# Altium footprint library OKmePCBLibrary.PcbLib: 194 footprints (part 4 of 13)
Each footprint in its own frame and in the unit in brackets; x right, y up, seen from the top. Pads: shape width x height; smd on the part's side, far side on the other; paste and mask are expansions set on the pad; w line width, h text height; cw(c..) or ccw(c..) is an arc to the next point about the centre after c.
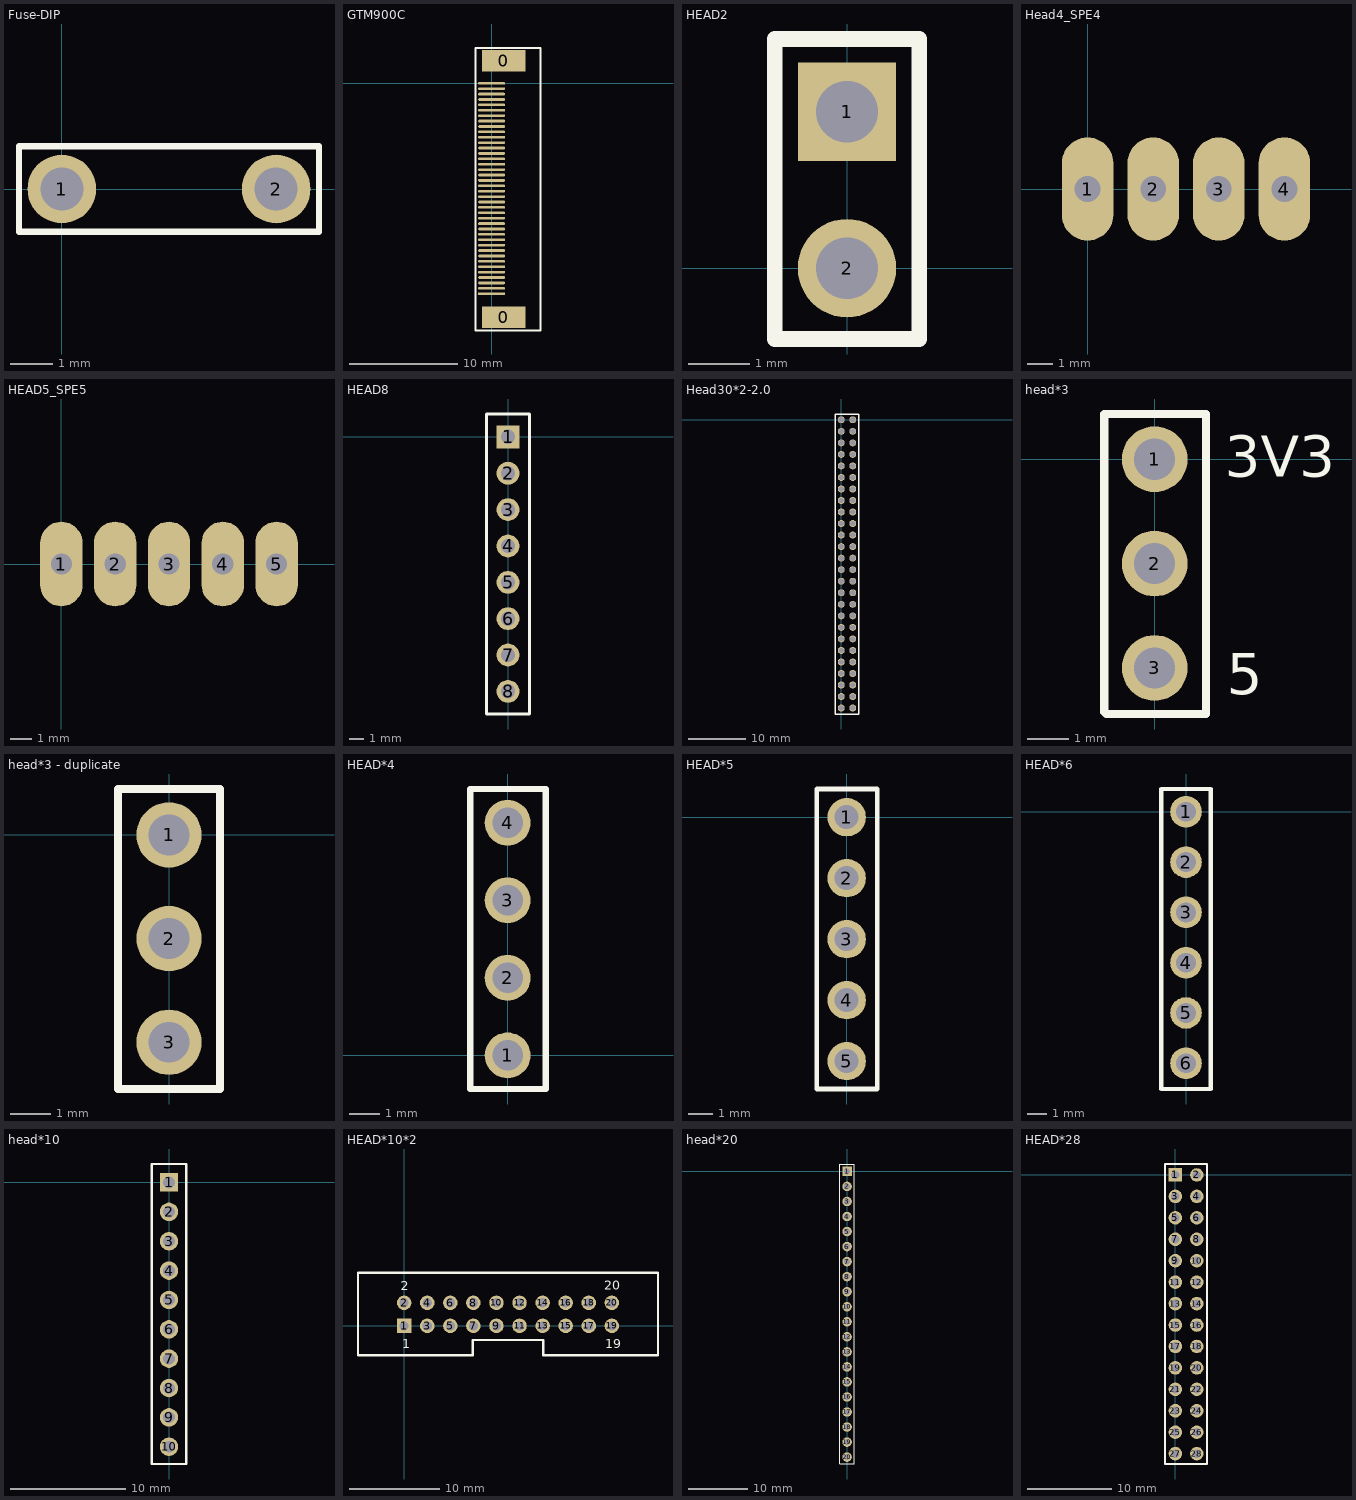
[diagram p3: the footprints below, top view; thin cyan lines are the x and y axes]

## Fuse-DIP [mm]
pads (2):
  round 1.6 hole 1: 1(0,0) 2(5,0)
Top Overlay:
  lines w0.15: -1,-1 -1,1 6,1 6,-1 -1,-1

## GTM900C [mm]
pads (42):
  rect 4x2 smd: 0(1.12,-21.695) 0(1.12,2.104)
  oval 2.5x0.25 smd: 1(0,0) 2(0,-0.5) 3(0,-1) 4(0,-1.5) 5(0,-2) 6(0,-2.5) 7(0,-3) 8(0,-3.5) 9(0,-4) 10(0,-4.5) 11(0,-5) 12(0,-5.5) 13(0,-6) 14(0,-6.5) 15(0,-7) 16(0,-7.5) 17(0,-8) 18(0,-8.5) 19(0,-9) 20(0,-9.5) 21(0,-10) 22(0,-10.5) 23(0,-11) 24(0,-11.5) 25(0,-12) 26(0,-12.5) 27(0,-13) 28(0,-13.5) 29(0,-14) 30(0,-14.5) 31(0,-15) 32(0,-15.5) 33(0,-16) 34(0,-16.5) 35(0,-17) 36(0,-17.5) 37(0,-18) 38(0,-18.5) 39(0,-19)
  rect 2.5x0.25 smd: 40(0,-19.499)
Top Overlay:
  lines w0.2: 4.52,0.75 4.52,-22.9 -1.48,-22.9 -1.48,3.275 4.52,3.275 4.52,0.775

## HEAD2 [mm]
pads (2):
  rect 1.6x1.6 hole 1: 1(0,2.54)
  round 1.6 hole 1: 2(0,0)
Top Overlay:
  lines w0.254: -1.175,-1.15 -1.175,3.725 1.175,3.725 1.175,-1.15 -1.175,-1.15

## Head4_SPE4 [mm]
pads (4):
  oval 2x4 hole 1: 1(0,0) 2(2.54,0) 3(5.08,0) 4(7.62,0)

## HEAD5_SPE5 [mm]
pads (5):
  oval 2x4 hole 1: 1(0,0) 2(2.54,0) 3(5.08,0) 4(7.62,0) 5(10.16,0)

## HEAD8 [mm]
pads (8):
  rect 1.6x1.6 hole 1: 1(0,0)
  round 1.6 hole 1: 2(0,-2.54) 3(0,-5.08) 4(0,-7.62) 5(0,-10.16) 6(0,-12.7) 7(0,-15.24) 8(0,-17.78)
Top Overlay:
  lines w0.2: -1.5,-19.36 -1.5,1.6 1.5,1.6 1.5,-19.36 -1.5,-19.36

## Head30*2-2.0 [mm]
pads (52):
  round 1.2 hole 0.9: 1(0,0) 2(2,0) 3(0,-2) 4(2,-2) 5(0,-4) 6(2,-4) 7(0,-6) 8(2,-6) 9(0,-8) 10(2,-8) 11(0,-10) 12(2,-10) 13(0,-12) 14(2,-12) 15(0,-14) 16(2,-14) 17(0,-16) 18(2,-16) 19(0,-18) 20(2,-18) 21(0,-20) 22(2,-20) 23(0,-22) 24(2,-22) 25(0,-24) 26(2,-24) 27(0,-26) 28(2,-26) 29(0,-28) 30(2,-28) 31(0,-30) 32(2,-30) 33(0,-32) 34(2,-32) 35(0,-34) 36(2,-34) 37(0,-36) 38(2,-36) 39(0,-38) 40(2,-38) 41(0,-40) 42(2,-40) 43(0,-42) 44(2,-42) 45(0,-44) 46(2,-44) 47(0,-46) 48(2,-46) 49(0,-48) 50(2,-48) 51(0,-50) 52(2,-50)
Top Overlay:
  lines w0.254: -1,-51.025 -1,1 3,1 3,-51.025 -1,-51.025

## head*3 [mm]
pads (3):
  round 1.6 hole 1: 1(0,0) 2(0,-2.54) 3(0,-5.08)
Top Overlay:
  lines w0.203: -1.225,-6.15 -1.175,-6.2 1.25,-6.2 1.25,1.1 -1.225,1.1 -1.225,-6.15
  text "5" at 1.75,-5.725 h1
  text "3V3" at 1.7,-0.425 h1

## head*3 - duplicate [mm]
pads (3):
  round 1.6 hole 1: 1(0,0) 2(0,-2.54) 3(0,-5.08)
Top Overlay:
  lines w0.203: -1.25,-6.225 1.25,-6.225 1.25,1.125 -1.25,1.125 -1.25,-6.225

## HEAD*4 [mm]
pads (4):
  round 1.5 hole 1: 1(0,0) 2(0,2.54) 3(0,5.08) 4(0,7.62)
Top Overlay:
  lines w0.203: 1.25,8.275 1.25,8.725 -1.225,8.725 -1.225,-1.1 1.25,-1.1 1.25,8.475

## HEAD*5 [mm]
pads (5):
  round 1.6 hole 1: 1(0,0) 2(0,-2.54) 3(0,-5.08) 4(0,-7.62) 5(0,-10.16)
Top Overlay:
  lines w0.203: -1.25,-11.325 1.275,-11.325 1.275,1.175 -1.25,1.175 -1.25,-11.325

## HEAD*6 [mm]
pads (6):
  round 1.6 hole 1: 1(0,0) 2(0,-2.54) 3(0,-5.08) 4(0,-7.62) 5(0,-10.16) 6(0,-12.7)
Top Overlay:
  lines w0.203: -1.25,-14 -1.25,1.15 1.25,1.15 1.25,-14 -1.25,-14

## head*10 [mm]
pads (10):
  rect 1.6x1.6 hole 1: 1(0,0)
  round 1.6 hole 1: 2(0,-2.54) 3(0,-5.08) 4(0,-7.62) 5(0,-10.16) 6(0,-12.7) 7(0,-15.24) 8(0,-17.78) 9(0,-20.32) 10(0,-22.86)
Top Overlay:
  lines w0.2: -1.5,-24.35 1.5,-24.35 1.5,1.6 -1.5,1.6 -1.5,-24.35

## HEAD*10*2 [mm]
pads (20):
  rect 1.6x1.6 hole 1: 1(0,0)
  round 1.6 hole 1: 2(0,2.54) 3(2.54,0) 4(2.54,2.54) 5(5.08,0) 6(5.08,2.54) 7(7.62,0) 8(7.62,2.54) 9(10.16,0) 10(10.16,2.54) 11(12.7,0) 12(12.7,2.54) 13(15.24,0) 14(15.24,2.54) 15(17.78,0) 16(17.78,2.54) 17(20.32,0) 18(20.32,2.54) 19(22.86,0) 20(22.86,2.54)
Top Overlay:
  lines w0.25: -5.08,5.842 27.94,5.842 ; -5.07,-3.23 -5.07,5.77 ; -5.055,-3.226 7.544,-3.226 7.544,-1.575 ; 7.544,-1.549 15.316,-1.549 15.316,-3.175 ; 15.316,-3.226 27.864,-3.226 ; 27.93,-3.23 27.93,5.842
  text "19" at 22.149,-2.438 h1
  text "20" at 22.022,3.988 h1
  text "2" at -0.356,3.937 h1
  text "1" at -0.229,-2.438 h1

## head*20 [mm]
pads (20):
  rect 1.6x1.6 hole 1: 1(0,0)
  round 1.6 hole 1: 2(0,-2.54) 3(0,-5.08) 4(0,-7.62) 5(0,-10.16) 6(0,-12.7) 7(0,-15.24) 8(0,-17.78) 9(0,-20.32) 10(0,-22.86) 11(0,-25.4) 12(0,-27.94) 13(0,-30.48) 14(0,-33.02) 15(0,-35.56) 16(0,-38.1) 17(0,-40.64) 18(0,-43.18) 19(0,-45.72) 20(0,-48.26)
Top Overlay:
  lines w0.203: -1.225,-49.425 -1.225,1.25 1.2,1.25 1.2,-49.425 -1.215,-49.425 -1.225,-49.425

## HEAD*28 [mm]
pads (28):
  rect 1.6x1.6 hole 1: 1(0,0)
  round 1.6 hole 1: 2(2.54,0) 3(0,-2.54) 4(2.54,-2.54) 5(0,-5.08) 6(2.54,-5.08) 7(0,-7.62) 8(2.54,-7.62) 9(0,-10.16) 10(2.54,-10.16) 11(0,-12.7) 12(2.54,-12.7) 13(0,-15.24) 14(2.54,-15.24) 15(0,-17.78) 16(2.54,-17.78) 17(0,-20.32) 18(2.54,-20.32) 19(0,-22.86) 20(2.54,-22.86) 21(0,-25.4) 22(2.54,-25.4) 23(0,-27.94) 24(2.54,-27.94) 25(0,-30.48) 26(2.54,-30.48) 27(0,-33.02) 28(2.54,-33.02)
Top Overlay:
  lines w0.203: -1.225,-34.25 -1.225,1.3 3.75,1.3 3.75,-34.25 -1.225,-34.25